# EAGLE library part MCP9808 (library microchip)
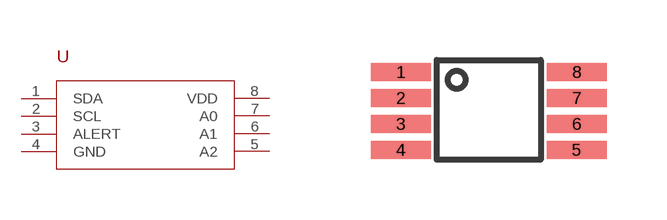
[diagram p3: symbol with the pads of MCP9808; footprint MCP9808]

Designator prefix U

## MCP9808  [MCP9808]
1  SDA
2  SCL
3  ALERT
4  GND
5  A2
6  A1
7  A0
8  VDD

## Footprint MCP9808 (pad centres in mm)
smd 1.5 x 0.45: 1 0,0; 2 0,-0.65; 3 0,-1.3; 4 0,-1.95; 5 4.4,-1.95; 6 4.4,-1.3; 7 4.4,-0.65; 8 4.4,0